# Altium schematic symbol library SCH - ARM CORTEX - NXP LPC804M101JHI33.SchLib: 1 symbol
Pins are listed as number, name and electrical type; pins without a type are passive.

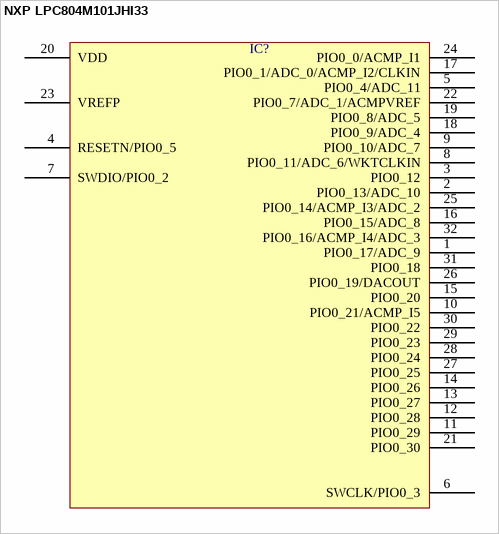
[diagram p0: symbol NXP LPC804M101JHI33]

## NXP LPC804M101JHI33
designator IC?  (value not drawn)
pins: 1 PIO0_17/ADC_9, 2 PIO0_13/ADC_10, 3 PIO0_12, 4 RESETN/PIO0_5, 5 PIO0_4/ADC_11, 6 SWCLK/PIO0_3, 7 SWDIO/PIO0_2, 8 PIO0_11/ADC_6/WKTCLKIN, 9 PIO0_10/ADC_7, 10 PIO0_21/ACMP_I5, 11 PIO0_29, 12 PIO0_28, 13 PIO0_27, 14 PIO0_26, 15 PIO0_20, 16 PIO0_15/ADC_8, 17 PIO0_1/ADC_0/ACMP_I2/CLKIN, 18 PIO0_9/ADC_4, 19 PIO0_8/ADC_5, 20 VDD, 21 PIO0_30, 22 PIO0_7/ADC_1/ACMPVREF, 23 VREFP, 24 PIO0_0/ACMP_I1, 25 PIO0_14/ACMP_I3/ADC_2, 26 PIO0_19/DACOUT, 27 PIO0_25, 28 PIO0_24, 29 PIO0_23, 30 PIO0_22, 31 PIO0_18, 32 PIO0_16/ACMP_I4/ADC_3